# EAGLE library part GV-5-MOD (library GNSS-proto)
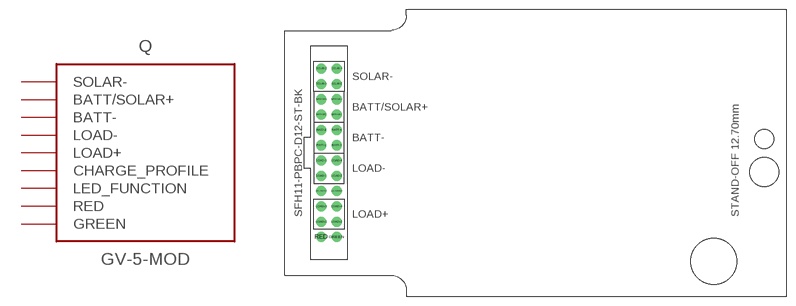
[diagram p2: symbol with the pads of GV-5-MOD; footprint GV-5-MOD]

Designator prefix Q

## GV-5-MOD  [GV-5-MOD]
BATT-1  BATT-
BATT-2  BATT-
BATT-3  BATT-
BATT-4  BATT-
BATT/SOLAR+1  BATT/SOLAR+
BATT/SOLAR+2  BATT/SOLAR+
BATT/SOLAR+3  BATT/SOLAR+
BATT/SOLAR+4  BATT/SOLAR+
CHG_PROFILE  CHARGE_PROFILE
GREEN  GREEN
LED_FUNCTION  LED_FUNCTION
LOAD+1  LOAD+
LOAD+2  LOAD+
LOAD+3  LOAD+
LOAD+4  LOAD+
LOAD-1  LOAD-
LOAD-2  LOAD-
LOAD-3  LOAD-
LOAD-4  LOAD-
RED  RED
SOLAR-1  SOLAR-
SOLAR-2  SOLAR-
SOLAR-3  SOLAR-
SOLAR-4  SOLAR-

## Footprint GV-5-MOD (pad centres in mm)
drill 1 pad 1.676: BATT-1 -1.27,1.27; BATT-2 1.27,1.27; BATT-3 -1.27,3.81; BATT-4 1.27,3.81; BATT/SOLAR+1 -1.27,6.35; BATT/SOLAR+2 1.27,6.35; BATT/SOLAR+3 -1.27,8.89; BATT/SOLAR+4 1.27,8.89; CHG_PROFILE -1.27,-6.35; GREEN 1.27,-13.97; LED_FUNCTION 1.27,-6.35; LOAD+1 -1.27,-11.43; LOAD+2 1.27,-11.43; LOAD+3 -1.27,-8.89; LOAD+4 1.27,-8.89; LOAD-1 -1.27,-3.81; LOAD-2 1.27,-3.81; LOAD-3 -1.27,-1.27; LOAD-4 1.27,-1.27; RED -1.27,-13.97; SOLAR-1 -1.27,11.43; SOLAR-2 1.27,11.43; SOLAR-3 -1.27,13.97; SOLAR-4 1.27,13.97
hole 4.75 at 72.136,-3.175
hole 3.175 at 72.136,2.286
hole 7.62 at 63.779,-18.034